# Altium integrated library mcus_ti.IntLib: 2 symbols
Pins are listed as number, name and electrical type; pins without a type are passive.

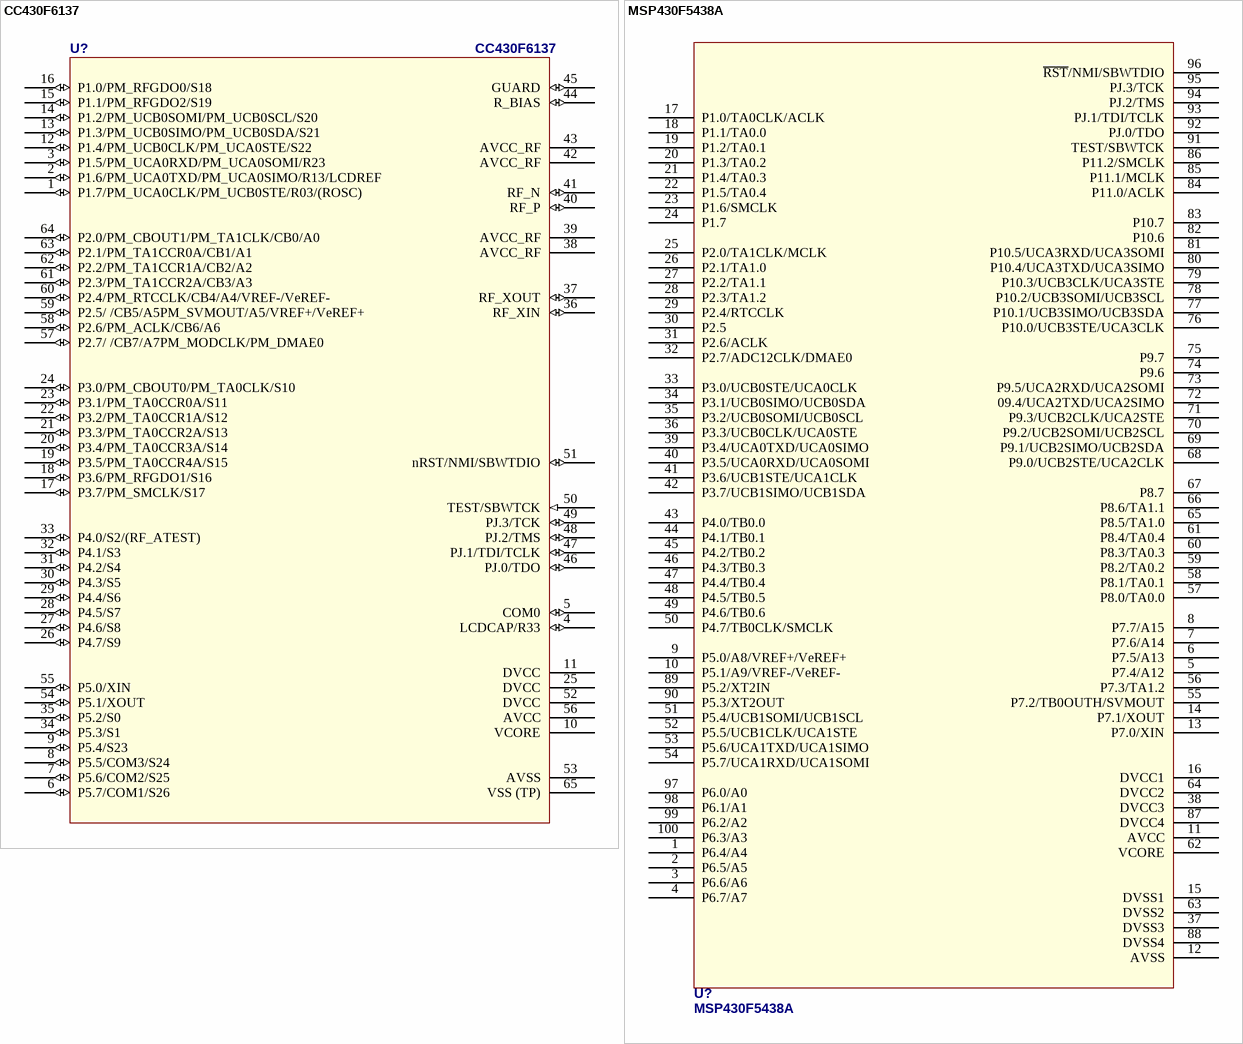
[diagram p0: symbols CC430F6137 to MSP430F5438A]

## CC430F6137
designator U?
16-Bit Ultra-Low-Power MCU, 32KB Flash, 4KB RAM, CC1101 Radio, AES-128, 12Bit ADC, USCI, LCD driver
footprint RGC64_M (QFN, 64-Leads, Body 9.1x9.1mm (max), Pitch 0.50mm, IPC Medium Density)
footprint RGC64_M_AUTO (QFN, 64-Leads, Body 9.1x9.1mm (max), Pitch 0.50mm, IPC Medium Density)
pins: 1 P1.7/PM_UCA0CLK/PM_UCB0STE/R03/(ROSC) (io), 2 P1.6/PM_UCA0TXD/PM_UCA0SIMO/R13/LCDREF (io), 3 P1.5/PM_UCA0RXD/PM_UCA0SOMI/R23 (io), 4 LCDCAP/R33 (io), 5 COM0 (io), 6 P5.7/COM1/S26 (io), 7 P5.6/COM2/S25 (io), 8 P5.5/COM3/S24 (io), 9 P5.4/S23 (io), 10 VCORE (power), 11 DVCC (power), 12 P1.4/PM_UCB0CLK/PM_UCA0STE/S22 (io), 13 P1.3/PM_UCB0SIMO/PM_UCB0SDA/S21 (io), 14 P1.2/PM_UCB0SOMI/PM_UCB0SCL/S20 (io), 15 P1.1/PM_RFGDO2/S19 (io), 16 P1.0/PM_RFGDO0/S18 (io), 17 P3.7/PM_SMCLK/S17 (io), 18 P3.6/PM_RFGDO1/S16 (io), 19 P3.5/PM_TA0CCR4A/S15 (io), 20 P3.4/PM_TA0CCR3A/S14 (io), 21 P3.3/PM_TA0CCR2A/S13 (io), 22 P3.2/PM_TA0CCR1A/S12 (io), 23 P3.1/PM_TA0CCR0A/S11 (io), 24 P3.0/PM_CBOUT0/PM_TA0CLK/S10 (io), 25 DVCC (power), 26 P4.7/S9 (io), 27 P4.6/S8 (io), 28 P4.5/S7 (io), 29 P4.4/S6 (io), 30 P4.3/S5 (io), 31 P4.2/S4 (io), 32 P4.1/S3 (io), 33 P4.0/S2/(RF_ATEST) (io), 34 P5.3/S1 (io), 35 P5.2/S0 (io), 36 RF_XIN (io), 37 RF_XOUT (io), 38 AVCC_RF (power), 39 AVCC_RF (power), 40 RF_P (io), 41 RF_N (io), 42 AVCC_RF (power), 43 AVCC_RF (power), 44 R_BIAS (io), 45 GUARD (io), 46 PJ.0/TDO (io), 47 PJ.1/TDI/TCLK (io), 48 PJ.2/TMS (io), 49 PJ.3/TCK (io), 50 TEST/SBWTCK (in), 51 nRST/NMI/SBWTDIO (io), 52 DVCC (power), 53 AVSS (power), 54 P5.1/XOUT (io), 55 P5.0/XIN (io), 56 AVCC (power), 57 P2.7/ /CB7/A7PM_MODCLK/PM_DMAE0 (io), 58 P2.6/PM_ACLK/CB6/A6 (io), 59 P2.5/ /CB5/A5PM_SVMOUT/A5/VREF+/VeREF+ (io), 60 P2.4/PM_RTCCLK/CB4/A4/VREF-/VeREF- (io), 61 P2.3/PM_TA1CCR2A/CB3/A3 (io), 62 P2.2/PM_TA1CCR1A/CB2/A2 (io), 63 P2.1/PM_TA1CCR0A/CB1/A1 (io), 64 P2.0/PM_CBOUT1/PM_TA1CLK/CB0/A0 (io), 65 VSS (TP)

## MSP430F5438A
designator U?
16-Bit Ultra-Low-Power Microcontroller, 256KB Flash, 16KB RAM, 12 Bit ADC, 4 USCIs, 32-bit HW Multi
footprint S-PQFP-G100
pins: 1 P6.4/A4, 2 P6.5/A5, 3 P6.6/A6, 4 P6.7/A7, 5 P7.4/A12, 6 P7.5/A13, 7 P7.6/A14, 8 P7.7/A15, 9 P5.0/A8/VREF+/VeREF+, 10 P5.1/A9/VREF-/VeREF-, 11 AVCC, 12 AVSS, 13 P7.0/XIN, 14 P7.1/XOUT, 15 DVSS1, 16 DVCC1, 17 P1.0/TA0CLK/ACLK, 18 P1.1/TA0.0, 19 P1.2/TA0.1, 20 P1.3/TA0.2, 21 P1.4/TA0.3, 22 P1.5/TA0.4, 23 P1.6/SMCLK, 24 P1.7, 25 P2.0/TA1CLK/MCLK, 26 P2.1/TA1.0, 27 P2.2/TA1.1, 28 P2.3/TA1.2, 29 P2.4/RTCCLK, 30 P2.5, 31 P2.6/ACLK, 32 P2.7/ADC12CLK/DMAE0, 33 P3.0/UCB0STE/UCA0CLK, 34 P3.1/UCB0SIMO/UCB0SDA, 35 P3.2/UCB0SOMI/UCB0SCL, 36 P3.3/UCB0CLK/UCA0STE, 37 DVSS3, 38 DVCC3, 39 P3.4/UCA0TXD/UCA0SIMO, 40 P3.5/UCA0RXD/UCA0SOMI, 41 P3.6/UCB1STE/UCA1CLK, 42 P3.7/UCB1SIMO/UCB1SDA, 43 P4.0/TB0.0, 44 P4.1/TB0.1, 45 P4.2/TB0.2, 46 P4.3/TB0.3, 47 P4.4/TB0.4, 48 P4.5/TB0.5, 49 P4.6/TB0.6, 50 P4.7/TB0CLK/SMCLK, 51 P5.4/UCB1SOMI/UCB1SCL, 52 P5.5/UCB1CLK/UCA1STE, 53 P5.6/UCA1TXD/UCA1SIMO, 54 P5.7/UCA1RXD/UCA1SOMI, 55 P7.2/TB0OUTH/SVMOUT, 56 P7.3/TA1.2, 57 P8.0/TA0.0, 58 P8.1/TA0.1, 59 P8.2/TA0.2, 60 P8.3/TA0.3, 61 P8.4/TA0.4, 62 VCORE, 63 DVSS2, 64 DVCC2, 65 P8.5/TA1.0, 66 P8.6/TA1.1, 67 P8.7, 68 P9.0/UCB2STE/UCA2CLK, 69 P9.1/UCB2SIMO/UCB2SDA, 70 P9.2/UCB2SOMI/UCB2SCL, 71 P9.3/UCB2CLK/UCA2STE, 72 09.4/UCA2TXD/UCA2SIMO, 73 P9.5/UCA2RXD/UCA2SOMI, 74 P9.6, 75 P9.7, 76 P10.0/UCB3STE/UCA3CLK, 77 P10.1/UCB3SIMO/UCB3SDA, 78 P10.2/UCB3SOMI/UCB3SCL, 79 P10.3/UCB3CLK/UCA3STE, 80 P10.4/UCA3TXD/UCA3SIMO, 81 P10.5/UCA3RXD/UCA3SOMI, 82 P10.6, 83 P10.7, 84 P11.0/ACLK, 85 P11.1/MCLK, 86 P11.2/SMCLK, 87 DVCC4, 88 DVSS4, 89 P5.2/XT2IN, 90 P5.3/XT2OUT, 91 TEST/SBWTCK, 92 PJ.0/TDO, 93 PJ.1/TDI/TCLK, 94 PJ.2/TMS, 95 PJ.3/TCK, 96 ~{RST}/NMI/SBWTDIO, 97 P6.0/A0, 98 P6.1/A1, 99 P6.2/A2, 100 P6.3/A3